# EAGLE library part IDWARF-168 (library chip45)
iDwaRF-168 The programmable wireless radio module iDwaRF-168 combines a Cypress2.4GHz DSSS radio transceiver with an Atmel AVR ATmega168microcontroller. In combination with the free iDwaRF-Net firmware apowerfull and expandable platform for custom specific wirelessapplication is available.
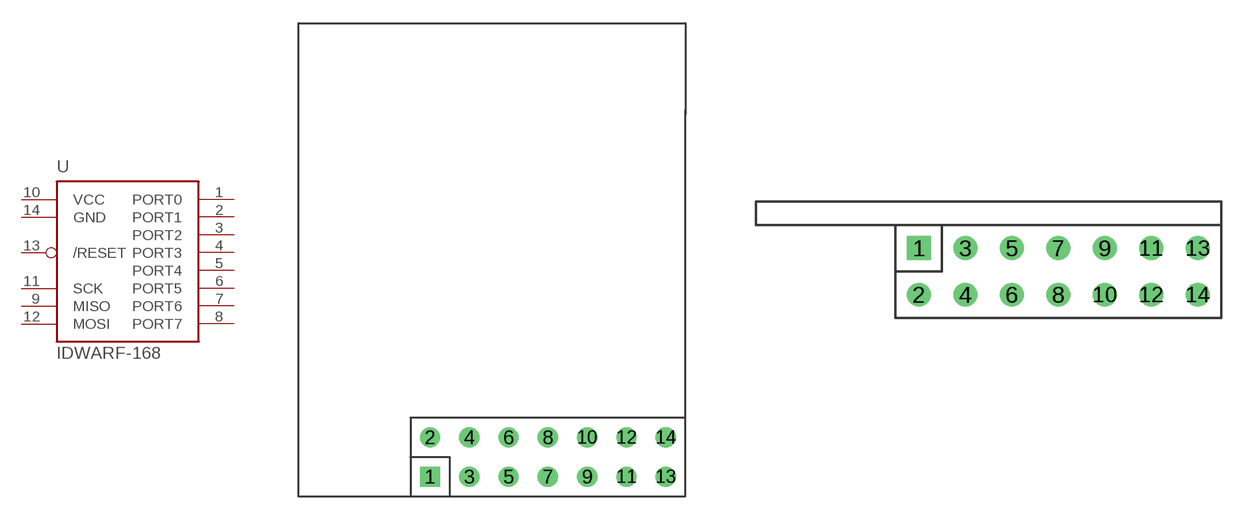
[diagram p11: symbol with the pads of IDWARF-168; footprints IDWARF-168, IDWARF-168_R]

Designator prefix -

## IDWARF-168 (EEPROM: 1kB; FLASH: 16kB; PERIPHERALS: CYWUSB6935 radio transceiver; PROCESSOR: ATmega168; RAM: 1kB SRAM)  [IDWARF-168]
1  PORT0
2  PORT1
3  PORT2
4  PORT3
5  PORT4
6  PORT5
7  PORT6
8  PORT7
9  MISO
10  VCC  pwr
11  SCK
12  MOSI
13  /RESET  in
14  GND  pwr

## IDWARF-168R (EEPROM: 1kB; FLASH: 16kB; PERIPHERALS: CYWUSB6935 radio transceiver; PROCESSOR: ATmega168; RAM: 1kB SRAM)  [IDWARF-168_R]
Pads as for IDWARF-168

## Footprint IDWARF-168 (pad centres in mm)
iDwaRF-168 V2.0 Programmable OEM radio module for wireless applications based on Atmel's AVR ATmega168 processor.
drill 0.8 square: 1 -3.81,-15.24
drill 0.8 round: 2 -3.81,-12.7; 3 -1.27,-15.24; 4 -1.27,-12.7; 5 1.27,-15.24; 6 1.27,-12.7; 7 3.81,-15.24; 8 3.81,-12.7; 9 6.35,-15.24; 10 6.35,-12.7; 11 8.89,-15.24; 12 8.89,-12.7; 13 11.43,-15.24; 14 11.43,-12.7

## Footprint IDWARF-168_R (pad centres in mm)
iDwaRF-168 V2.0 Programmable OEM radio module for wireless applications based on Atmel's AVR ATmega168 processor.
drill 0.8 square: 1 -6.35,0
drill 0.8 round: 2 -6.35,-2.54; 3 -3.81,0; 4 -3.81,-2.54; 5 -1.27,0; 6 -1.27,-2.54; 7 1.27,0; 8 1.27,-2.54; 9 3.81,0; 10 3.81,-2.54; 11 6.35,0; 12 6.35,-2.54; 13 8.89,0; 14 8.89,-2.54